# Altium footprint library LM2596.PcbLib: 1 footprints
Each footprint in its own frame and in the unit in brackets; x right, y up, seen from the top. Pads: shape width x height; smd on the part's side, far side on the other; paste and mask are expansions set on the pad; w line width, h text height; cw(c..) or ccw(c..) is an arc to the next point about the centre after c.
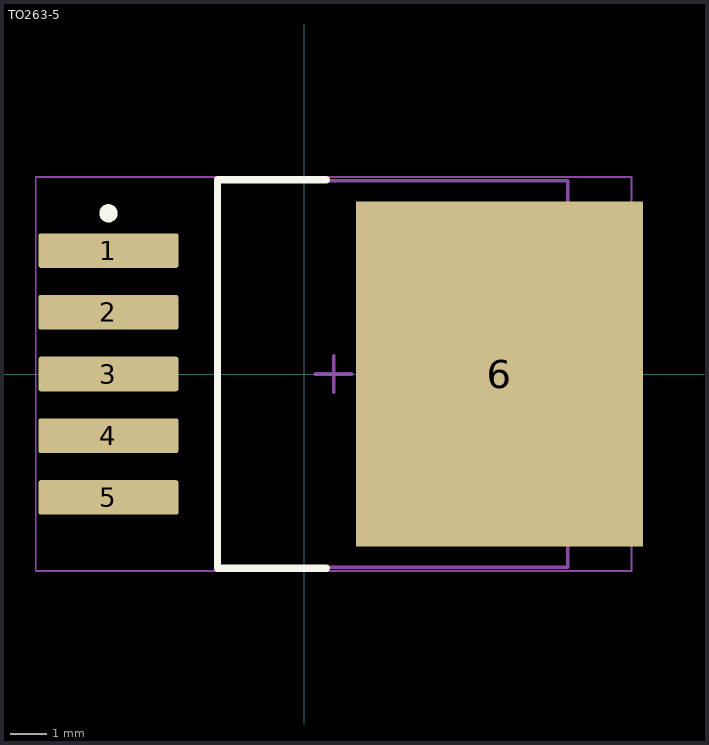
[diagram p0: the footprint, top view; thin cyan lines are the x and y axes]

## TO263-5 [mm]
pads (6):
  rrect11% 3.85x0.95 smd: 1(-5.386,3.4) 2(-5.386,1.7) 3(-5.386,0) 4(-5.386,-1.7) 5(-5.386,-3.4)
  rect 7.9x9.5 smd: 6(5.386,0)
Top Overlay:
  circle w0.25: c-5.386,4.425 r0.125
  lines w0.2: 0.614,-5.35 -2.386,-5.35 -2.386,5.35 0.614,5.35
Mechanical 13:
  lines w0.1: -2.386,-5.325 7.264,-5.325 7.264,5.325 -2.386,5.325 -2.386,-5.325
Mechanical 15:
  lines w0.05: -7.386,-5.425 9.014,-5.425 9.014,5.425 -7.386,5.425 -7.386,-5.425
  lines w0.1: 0.314,0 1.314,0 ; 0.814,-0.5 0.814,0.5
3D body "User Library-TO263-5.STEP": height 4.68, standoff -0.12, extent -7.149,-5 8.521,5